# Altium footprint library 0603 LED.PcbLib: 1 footprints
Each footprint in its own frame and in the unit in brackets; x right, y up, seen from the top. Pads: shape width x height; smd on the part's side, far side on the other; paste and mask are expansions set on the pad; w line width, h text height; cw(c..) or ccw(c..) is an arc to the next point about the centre after c.
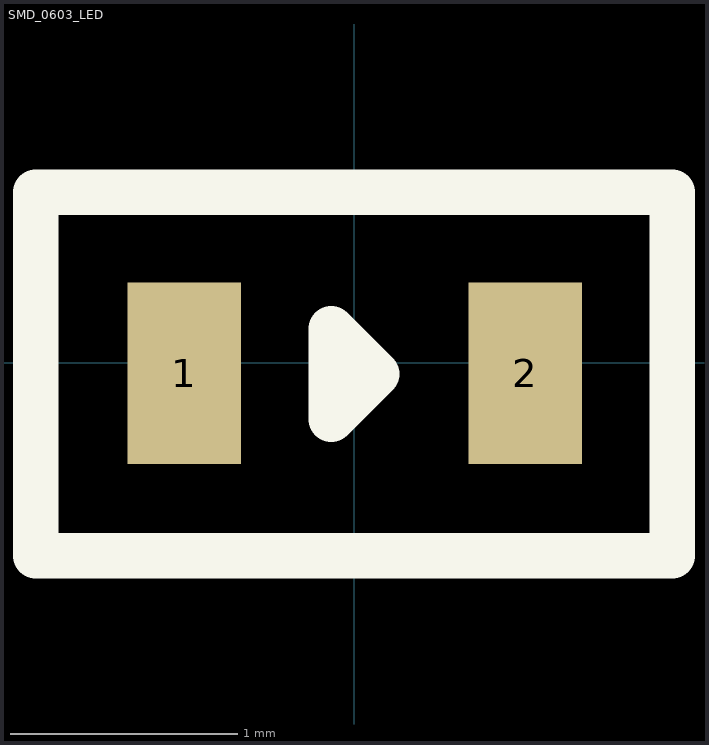
[diagram p0: the footprint, top view; thin cyan lines are the x and y axes]

## SMD_0603_LED [mm]
pads (2):
  rect 0.5x0.8 smd: 1(-0.747,-0.047) 2(0.753,-0.047)
Top Overlay:
  lines w0.2: -1.4,-0.85 1.4,-0.85 1.4,0.75 -1.4,0.75 -1.4,-0.85 ; -0.1,-0.25 -0.1,-0.1 -0.1,0.15 0.1,-0.05 -0.1,-0.25
3D body: height 0.45, standoff 0, extent -0.747,-0.547 0.753,0.453